# Altium schematic symbol library Schlib1.SchLib: 6 symbols
Pins are listed as number, name and electrical type; pins without a type are passive.

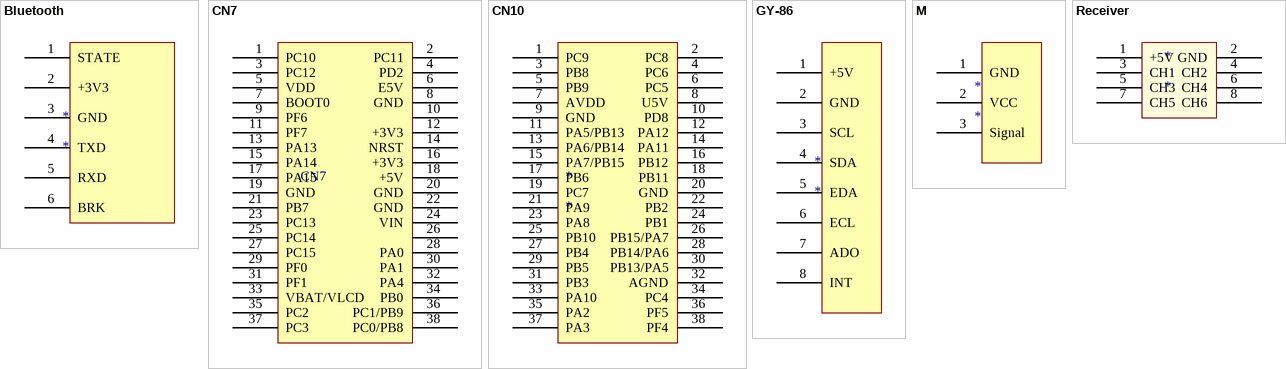
[diagram p0: symbols Bluetooth to Receiver]

## Bluetooth
designator *
footprint Bluetooth
pins: 1 STATE, 2 +3V3, 3 GND, 4 TXD, 5 RXD, 6 BRK

## CN7
designator CN7  (value not drawn)
footprint CN7
pins: 1 PC10, 2 PC11, 3 PC12, 4 PD2, 5 VDD, 6 E5V, 7 BOOT0, 8 GND, 9 PF6, 10, 11 PF7, 12 +3V3, 13 PA13, 14 NRST, 15 PA14, 16 +3V3, 17 PA15, 18 +5V, 19 GND, 20 GND, 21 PB7, 22 GND, 23 PC13, 24 VIN, 25 PC14, 26, 27 PC15, 28 PA0, 29 PF0, 30 PA1, 31 PF1, 32 PA4, 33 VBAT/VLCD, 34 PB0, 35 PC2, 36 PC1/PB9, 37 PC3, 38 PC0/PB8

## CN10
designator *
footprint CN10
pins: 1 PC9, 2 PC8, 3 PB8, 4 PC6, 5 PB9, 6 PC5, 7 AVDD, 8 U5V, 9 GND, 10 PD8, 11 PA5/PB13, 12 PA12, 13 PA6/PB14, 14 PA11, 15 PA7/PB15, 16 PB12, 17 PB6, 18 PB11, 19 PC7, 20 GND, 21 PA9, 22 PB2, 23 PA8, 24 PB1, 25 PB10, 26 PB15/PA7, 27 PB4, 28 PB14/PA6, 29 PB5, 30 PB13/PA5, 31 PB3, 32 AGND, 33 PA10, 34 PC4, 35 PA2, 36 PF5, 37 PA3, 38 PF4

## GY-86
designator *
footprint GY-86
pins: 1 +5V, 2 GND, 3 SCL, 4 SDA, 5 EDA, 6 ECL, 7 ADO, 8 INT

## M
designator *
footprint M
pins: 1 GND, 2 VCC, 3 Signal

## Receiver
designator *
footprint Receiver
pins: 1 +5V, 2 GND, 3 CH1, 4 CH2, 5 CH3, 6 CH4, 7 CH5, 8 CH6